# Altium schematic symbol library CONNECTOR_DISP.SchLib: 1 symbol
Pins are listed as number, name and electrical type; pins without a type are passive.

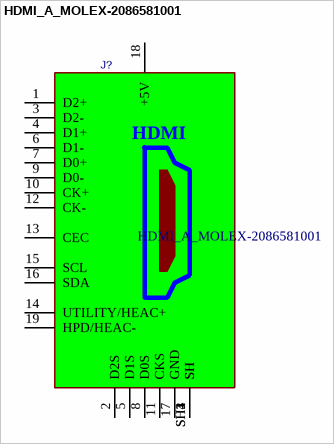
[diagram p0: symbol HDMI_A_MOLEX-2086581001]

## HDMI_A_MOLEX-2086581001
designator J?
Female HDMI Port HDMI_A_MOLEX-2086581001
footprint HDMI_A_MOLEX-2086581001
pins: 1 D2+, 2 D2S, 3 D2-, 4 D1+, 5 D1S, 6 D1-, 7 D0+, 8 D0S, 9 D0-, 10 CK+, 11 CKS, 12 CK-, 13 CEC, 14 UTILITY/HEAC+, 15 SCL, 16 SDA, 17 GND, 18 +5V, 19 HPD/HEAC-, SH1 SH, SH2 SH, SH3 SH, SH4 SH
text: HDMI